# Altium integrated library NXP Microcontrollers ARM7.IntLib: 82 symbols (part 5 of 11)
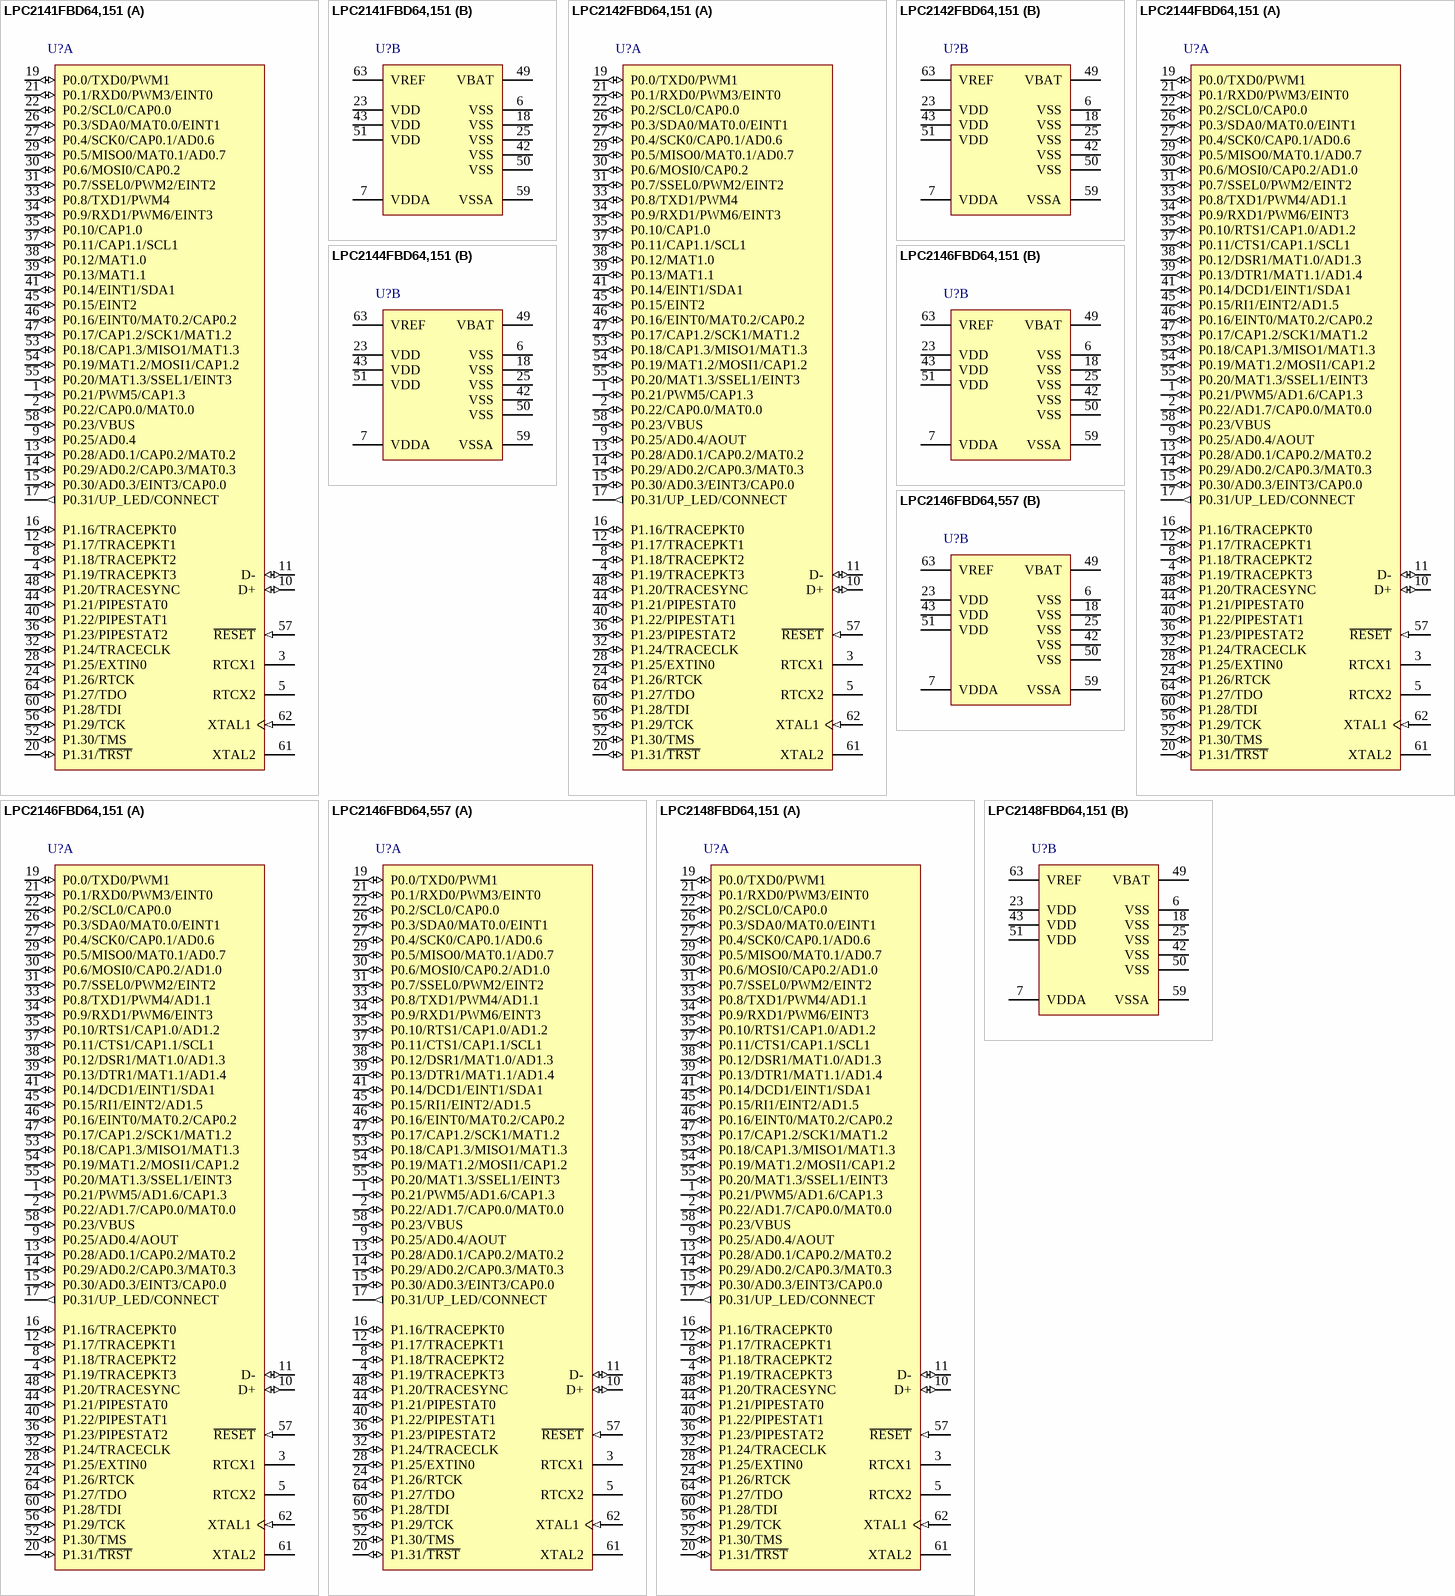
[diagram p39: symbols LPC2141FBD64,151 to LPC2148FBD64,151]

## LPC2146FBD64,557
designator U?
16/32-bit ARM7 Microcontroller, 45 I/O, 256 kB Flash, 40 kB SRAM, -40 to 85 degC, 64-Pin LQFP, Tray; Manufacturer: NXP Semiconductors; PartNumber: LPC2146FBD64,557; # of timers: 2; ADC (bits): 10; ADC Channels: 14; Flash (KB): 256; fmax [max] (MHz): 60; I/O Pins: 45; PLL: TRUE; PWM: 6; RAM (KB): 40; SPI: 1; Timer (bits): 32; DatasheetVersion: Rev. 5; PackageVersion: Feb-03; PackageReference: SOT314-2; PackageDescription: 64-Pin Plastic Low Profile Quad Flat Package, Body 10 x 10 mm, Pitch 0.5 mm; Supplier 1: Digi-Key; Supplier Part Number 1: LPC2146FBD64,557-ND; Supplier 2: Mouser; Supplier Part Number 2: 771-LPC2146FBD64557; Core: ARM7; I2C: 2; Packing: Tray; SSP: 1; UART: 2; USB: 1; Mounting Technology: Surface Mount; Code_JEDEC: MS-026; ComponentLink1Description: Manufacturer URL; ComponentLink1URL: http://www.nxp.com/; ComponentLink2Description: Datasheet; ComponentLink2URL: http://www.nxp.com/documents/data_sheet/LPC2141_42_44_46_48.pdf; ComponentLink3Description: Package Specification; ComponentLink3URL: http://www.nxp.com/documents/outline_drawing/sot314-2_po.pdf
footprint NXP-SOT314-2_V (QFP, 64-Leads, Body 10x10mm, Pitch 0.5mm)
part A pins: 1 P0.21/PWM5/AD1.6/CAP1.3 (io), 2 P0.22/AD1.7/CAP0.0/MAT0.0 (io), 3 RTCX1 "Input to the RTC oscillator circuit.", 4 P1.19/TRACEPKT3 (io), 5 RTCX2 "Output from the RTC oscillator circuit.", 8 P1.18/TRACEPKT2 (io), 9 P0.25/AD0.4/AOUT (io), 10 D+ (io) "USB bidirectional D+ line.", 11 D- (io) "USB bidirectional D- line.", 12 P1.17/TRACEPKT1 (io), 13 P0.28/AD0.1/CAP0.2/MAT0.2 (io), 14 P0.29/AD0.2/CAP0.3/MAT0.3 (io), 15 P0.30/AD0.3/EINT3/CAP0.0 (io), 16 P1.16/TRACEPKT0 (io), 17 P0.31/UP_LED/CONNECT (out), 19 P0.0/TXD0/PWM1 (io), 20 P1.31/~{TRST} (io), 21 P0.1/RXD0/PWM3/EINT0 (io), 22 P0.2/SCL0/CAP0.0 (io), 24 P1.26/RTCK (io), 26 P0.3/SDA0/MAT0.0/EINT1 (io), 27 P0.4/SCK0/CAP0.1/AD0.6 (io), 28 P1.25/EXTIN0 (io), 29 P0.5/MISO0/MAT0.1/AD0.7 (io), 30 P0.6/MOSI0/CAP0.2/AD1.0 (io), 31 P0.7/SSEL0/PWM2/EINT2 (io), 32 P1.24/TRACECLK (io), 33 P0.8/TXD1/PWM4/AD1.1 (io), 34 P0.9/RXD1/PWM6/EINT3 (io), 35 P0.10/RTS1/CAP1.0/AD1.2 (io), 36 P1.23/PIPESTAT2 (io), 37 P0.11/CTS1/CAP1.1/SCL1 (io), 38 P0.12/DSR1/MAT1.0/AD1.3 (io), 39 P0.13/DTR1/MAT1.1/AD1.4 (io), 40 P1.22/PIPESTAT1 (io), 41 P0.14/DCD1/EINT1/SDA1 (io), 44 P1.21/PIPESTAT0 (io), 45 P0.15/RI1/EINT2/AD1.5 (io), 46 P0.16/EINT0/MAT0.2/CAP0.2 (io), 47 P0.17/CAP1.2/SCK1/MAT1.2 (io), 48 P1.20/TRACESYNC (io), 52 P1.30/TMS (io), 53 P0.18/CAP1.3/MISO1/MAT1.3 (io), 54 P0.19/MAT1.2/MOSI1/CAP1.2 (io), 55 P0.20/MAT1.3/SSEL1/EINT3 (io), 56 P1.29/TCK (io), 57 ~{RESET} (in) "External reset input: A LOW on this pin resets the device, causing I/O ports and peripherals to take on their default states, and processor execution to begin at address 0. TTL with hysteresis, 5 V tolerant.", 58 P0.23/VBUS (io), 60 P1.28/TDI (io), 61 XTAL2 "Output from the oscillator amplifier.", 62 XTAL1 (in) "Input to the oscillator circuit and internal clock generator circuits.", 64 P1.27/TDO (io)
part B pins: 6 VSS (power) "Ground: 0 V reference.", 7 VDDA (power) "Analog 3.3 V power supply: This should be nominally the same voltage as VDD but should be isolated to minimize noise and error.This voltage is only used to power the on-chip ADC(s) and DAC.", 18 VSS (power) "Ground: 0 V reference.", 23 VDD (power) "3.3 V power supply: This is the power supply voltage for the core and I/O ports.", 25 VSS (power) "Ground: 0 V reference.", 42 VSS (power) "Ground: 0 V reference.", 43 VDD (power) "3.3 V power supply: This is the power supply voltage for the core and I/O ports.", 49 VBAT (power) "RTC power supply voltage: 3.3 V on this pin supplies the power to the RTC.", 50 VSS (power) "Ground: 0 V reference.", 51 VDD (power) "3.3 V power supply: This is the power supply voltage for the core and I/O ports.", 59 VSSA (power) "Analog ground: 0 V reference. This should nominally be the same voltage as VSS, but should be isolated to minimize noise and error.", 63 VREF "ADC reference voltage: This should be nominally less than or equal to the VDD voltage but should be isolated to minimize noise and error.Level on this pin is used as a reference for ADC(s) and DAC."

## LPC2148FBD64,151
designator U?
16/32-bit ARM7 Microcontroller, 45 I/O, 512 kB Flash, 40 kB SRAM, -40 to 85 degC, 64-Pin LQFP, Tray; Manufacturer: NXP Semiconductors; PartNumber: LPC2148FBD64,151; # of timers: 2; ADC (bits): 10; ADC Channels: 14; Flash (KB): 512; fmax [max] (MHz): 60; I/O Pins: 45; PLL: TRUE; PWM: 6; RAM (KB): 40; SPI: 1; Timer (bits): 32; DatasheetVersion: Rev. 5; PackageVersion: Feb-03; PackageReference: SOT314-2; PackageDescription: 64-Pin Plastic Low Profile Quad Flat Package, Body 10 x 10 mm, Pitch 0.5 mm; Supplier 1: Digi-Key; Supplier Part Number 1: 568-1765-ND; Supplier 2: Newark; Supplier Part Number 2: 70R5631; Supplier 3: Mouser; Supplier Part Number 3: 771-LPC2148FBD64-S; Core: ARM7; I2C: 2; Packing: Tray; SSP: 1; UART: 2; USB: 1; Mounting Technology: Surface Mount; Code_JEDEC: MS-026; ComponentLink1Description: Manufacturer URL; ComponentLink1URL: http://www.nxp.com/; ComponentLink2Description: Datasheet; ComponentLink2URL: http://www.nxp.com/documents/data_sheet/LPC2141_42_44_46_48.pdf; ComponentLink3Description: Package Specification; ComponentLink3URL: http://www.nxp.com/documents/outline_drawing/sot314-2_po.pdf
footprint NXP-SOT314-2_V (QFP, 64-Leads, Body 10x10mm, Pitch 0.5mm)
part A pins: 1 P0.21/PWM5/AD1.6/CAP1.3 (io), 2 P0.22/AD1.7/CAP0.0/MAT0.0 (io), 3 RTCX1 "Input to the RTC oscillator circuit.", 4 P1.19/TRACEPKT3 (io), 5 RTCX2 "Output from the RTC oscillator circuit.", 8 P1.18/TRACEPKT2 (io), 9 P0.25/AD0.4/AOUT (io), 10 D+ (io) "USB bidirectional D+ line.", 11 D- (io) "USB bidirectional D- line.", 12 P1.17/TRACEPKT1 (io), 13 P0.28/AD0.1/CAP0.2/MAT0.2 (io), 14 P0.29/AD0.2/CAP0.3/MAT0.3 (io), 15 P0.30/AD0.3/EINT3/CAP0.0 (io), 16 P1.16/TRACEPKT0 (io), 17 P0.31/UP_LED/CONNECT (out), 19 P0.0/TXD0/PWM1 (io), 20 P1.31/~{TRST} (io), 21 P0.1/RXD0/PWM3/EINT0 (io), 22 P0.2/SCL0/CAP0.0 (io), 24 P1.26/RTCK (io), 26 P0.3/SDA0/MAT0.0/EINT1 (io), 27 P0.4/SCK0/CAP0.1/AD0.6 (io), 28 P1.25/EXTIN0 (io), 29 P0.5/MISO0/MAT0.1/AD0.7 (io), 30 P0.6/MOSI0/CAP0.2/AD1.0 (io), 31 P0.7/SSEL0/PWM2/EINT2 (io), 32 P1.24/TRACECLK (io), 33 P0.8/TXD1/PWM4/AD1.1 (io), 34 P0.9/RXD1/PWM6/EINT3 (io), 35 P0.10/RTS1/CAP1.0/AD1.2 (io), 36 P1.23/PIPESTAT2 (io), 37 P0.11/CTS1/CAP1.1/SCL1 (io), 38 P0.12/DSR1/MAT1.0/AD1.3 (io), 39 P0.13/DTR1/MAT1.1/AD1.4 (io), 40 P1.22/PIPESTAT1 (io), 41 P0.14/DCD1/EINT1/SDA1 (io), 44 P1.21/PIPESTAT0 (io), 45 P0.15/RI1/EINT2/AD1.5 (io), 46 P0.16/EINT0/MAT0.2/CAP0.2 (io), 47 P0.17/CAP1.2/SCK1/MAT1.2 (io), 48 P1.20/TRACESYNC (io), 52 P1.30/TMS (io), 53 P0.18/CAP1.3/MISO1/MAT1.3 (io), 54 P0.19/MAT1.2/MOSI1/CAP1.2 (io), 55 P0.20/MAT1.3/SSEL1/EINT3 (io), 56 P1.29/TCK (io), 57 ~{RESET} (in) "External reset input: A LOW on this pin resets the device, causing I/O ports and peripherals to take on their default states, and processor execution to begin at address 0. TTL with hysteresis, 5 V tolerant.", 58 P0.23/VBUS (io), 60 P1.28/TDI (io), 61 XTAL2 "Output from the oscillator amplifier.", 62 XTAL1 (in) "Input to the oscillator circuit and internal clock generator circuits.", 64 P1.27/TDO (io)
part B pins: 6 VSS (power) "Ground: 0 V reference.", 7 VDDA (power) "Analog 3.3 V power supply: This should be nominally the same voltage as VDD but should be isolated to minimize noise and error.This voltage is only used to power the on-chip ADC(s) and DAC.", 18 VSS (power) "Ground: 0 V reference.", 23 VDD (power) "3.3 V power supply: This is the power supply voltage for the core and I/O ports.", 25 VSS (power) "Ground: 0 V reference.", 42 VSS (power) "Ground: 0 V reference.", 43 VDD (power) "3.3 V power supply: This is the power supply voltage for the core and I/O ports.", 49 VBAT (power) "RTC power supply voltage: 3.3 V on this pin supplies the power to the RTC.", 50 VSS (power) "Ground: 0 V reference.", 51 VDD (power) "3.3 V power supply: This is the power supply voltage for the core and I/O ports.", 59 VSSA (power) "Analog ground: 0 V reference. This should nominally be the same voltage as VSS, but should be isolated to minimize noise and error.", 63 VREF "ADC reference voltage: This should be nominally less than or equal to the VDD voltage but should be isolated to minimize noise and error.Level on this pin is used as a reference for ADC(s) and DAC."

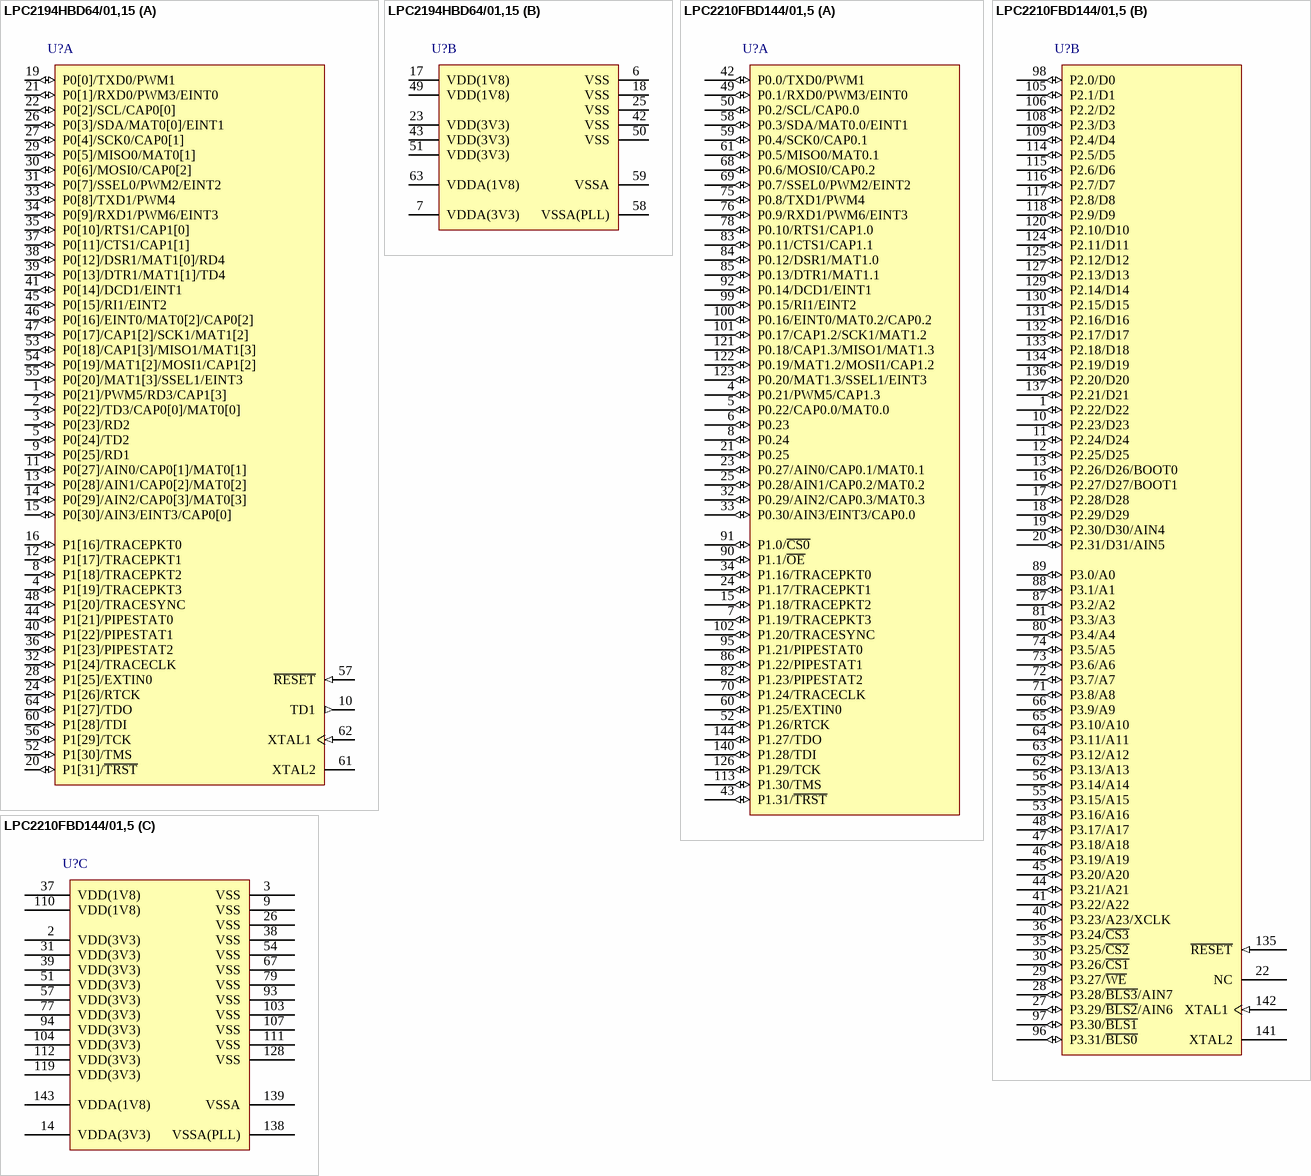
[diagram p12: symbols LPC2194HBD64/01,15 to LPC2210FBD144/01,5]

## LPC2194HBD64/01,15
designator U?
16/32-bit ARM7 Microcontroller, 46 I/O, 256 kB Flash, 16 kB SRAM, -40 to 125 degC, 64-Pin LQFP, Tray; Manufacturer: NXP Semiconductors; PartNumber: LPC2194HBD64/01,15; # of timers: 2; ADC (bits): 10; ADC Channels: 4; Flash (KB): 256; fmax [max] (MHz): 60; I/O Pins: 46; I2C: 1; PLL: TRUE; PWM: 6; RAM (KB): 16; Timer (bits): 32; DatasheetVersion: Rev. 6; PackageVersion: Feb-03; PackageReference: SOT314-2; PackageDescription: 64-Pin Plastic Low Profile Quad Flat Package, Body 10 x 10 mm, Pitch 0.5 mm; Supplier 1: Digi-Key; Supplier Part Number 1: 568-4316-ND; Supplier 2: Farnell; Supplier Part Number 2: 2072215; Supplier 3: Newark; Supplier Part Number 3: 70R5634; Supplier 4: Mouser; Supplier Part Number 4: 771-LPC2194HBD64/01S; CAN: 4; Core: ARM7; Packing: Tray; SPI: 2; SSP: 1; UART: 2; Mounting Technology: Surface Mount; Code_JEDEC: MS-026; ComponentLink1Description: Manufacturer URL; ComponentLink1URL: http://www.nxp.com/; ComponentLink2Description: Datasheet; ComponentLink2URL: http://www.nxp.com/documents/data_sheet/LPC2194.pdf; ComponentLink3Description: Package Specification; ComponentLink3URL: http://www.nxp.com/documents/outline_drawing/sot314-2_po.pdf
footprint NXP-SOT314-2_V (QFP, 64-Leads, Body 10x10mm, Pitch 0.5mm)
part A pins: 1 P0[21]/PWM5/RD3/CAP1[3] (io), 2 P0[22]/TD3/CAP0[0]/MAT0[0] (io), 3 P0[23]/RD2 (io), 4 P1[19]/TRACEPKT3 (io), 5 P0[24]/TD2 (io), 8 P1[18]/TRACEPKT2 (io), 9 P0[25]/RD1 (io), 10 TD1 (out) "CAN1 transmitter output.", 11 P0[27]/AIN0/CAP0[1]/MAT0[1] (io), 12 P1[17]/TRACEPKT1 (io), 13 P0[28]/AIN1/CAP0[2]/MAT0[2] (io), 14 P0[29]/AIN2/CAP0[3]/MAT0[3] (io), 15 P0[30]/AIN3/EINT3/CAP0[0] (io), 16 P1[16]/TRACEPKT0 (io), 19 P0[0]/TXD0/PWM1 (io), 20 P1[31]/~{TRST} (io), 21 P0[1]/RXD0/PWM3/EINT0 (io), 22 P0[2]/SCL/CAP0[0] (io), 24 P1[26]/RTCK (io), 26 P0[3]/SDA/MAT0[0]/EINT1 (io), 27 P0[4]/SCK0/CAP0[1] (io), 28 P1[25]/EXTIN0 (io), 29 P0[5]/MISO0/MAT0[1] (io), 30 P0[6]/MOSI0/CAP0[2] (io), 31 P0[7]/SSEL0/PWM2/EINT2 (io), 32 P1[24]/TRACECLK (io), 33 P0[8]/TXD1/PWM4 (io), 34 P0[9]/RXD1/PWM6/EINT3 (io), 35 P0[10]/RTS1/CAP1[0] (io), 36 P1[23]/PIPESTAT2 (io), 37 P0[11]/CTS1/CAP1[1] (io), 38 P0[12]/DSR1/MAT1[0]/RD4 (io), 39 P0[13]/DTR1/MAT1[1]/TD4 (io), 40 P1[22]/PIPESTAT1 (io), 41 P0[14]/DCD1/EINT1 (io), 44 P1[21]/PIPESTAT0 (io), 45 P0[15]/RI1/EINT2 (io), 46 P0[16]/EINT0/MAT0[2]/CAP0[2] (io), 47 P0[17]/CAP1[2]/SCK1/MAT1[2] (io), 48 P1[20]/TRACESYNC (io), 52 P1[30]/TMS (io), 53 P0[18]/CAP1[3]/MISO1/MAT1[3] (io), 54 P0[19]/MAT1[2]/MOSI1/CAP1[2] (io), 55 P0[20]/MAT1[3]/SSEL1/EINT3 (io), 56 P1[29]/TCK (io), 57 ~{RESET} (in) "external reset input; a LOW on this pin resets the device, causing I/O ports and peripherals to take on their default states, and processor execution to begin at address 0. TTL with hysteresis, 5 V tolerant.", 60 P1[28]/TDI (io), 61 XTAL2 "output from the oscillator amplifier.", 62 XTAL1 (in) "input to the oscillator circuit and internal clock generator circuits.", 64 P1[27]/TDO (io)
part B pins: 6 VSS (power) "ground: 0 V reference.", 7 VDDA(3V3) (power) "analog 3.3 V pad power supply; this should be nominally the same voltage as VDD(3V3) but should be isolated to minimize noise and error.", 17 VDD(1V8) (power) "1.8 V core power supply; this is the power supply voltage for internal circuitry.", 18 VSS (power) "ground: 0 V reference.", 23 VDD(3V3) (power) "3.3 V pad power supply; this is the power supply voltage for the I/O ports.", 25 VSS (power) "ground: 0 V reference.", 42 VSS (power) "ground: 0 V reference.", 43 VDD(3V3) (power) "3.3 V pad power supply; this is the power supply voltage for the I/O ports.", 49 VDD(1V8) (power) "1.8 V core power supply; this is the power supply voltage for internal circuitry.", 50 VSS (power) "ground: 0 V reference.", 51 VDD(3V3) (power) "3.3 V pad power supply; this is the power supply voltage for the I/O ports.", 58 VSSA(PLL) (power) "PLL analog ground; 0 V reference. This should nominally be the same voltage as VSS, but should be isolated to minimize noise and error.", 59 VSSA (power) "analog ground; 0 V reference. This should nominally be the same voltage as VSS, but should be isolated to minimize noise and error.", 63 VDDA(1V8) (power) "analog 1.8 V core power supply; this is the power supply voltage for internal circuitry. This should be nominally the same voltage as VDD(1V8) but should be isolated to minimize noise and error."

## LPC2210FBD144/01,5
designator U?
16/32-bit ARM7 Microcontroller, 76 I/O, 16 kB SRAM, -40 to 85 degC, 144-Pin LQFP, Tray; Manufacturer: NXP Semiconductors; PartNumber: LPC2210FBD144/01,5; # of timers: 2; ADC (bits): 10; ADC Channels: 8; fmax [max] (MHz): 60; I/O Pins: 76; I2C: 1; PLL: TRUE; PWM: 6; RAM (KB): 16; SSP: 3; Timer (bits): 32; DatasheetVersion: Rev. 06; PackageVersion: Feb-03; PackageReference: SOT486-1; PackageDescription: 144-Pin Plastic Low Profile Quad Flat Package, Body 20 x 20 mm, Pitch 0.5 mm; Supplier 1: Digi-Key; Supplier Part Number 1: 568-4012-ND; Supplier 2: Newark; Supplier Part Number 2: 70R5635; Supplier 3: Mouser; Supplier Part Number 3: 771-LPC2210FBD14401S; Core: ARM7; Packing: Tray; SPI: 2; UART: 2; Mounting Technology: Surface Mount; Code_JEDEC: MS-026; ComponentLink1Description: Manufacturer URL; ComponentLink1URL: http://www.nxp.com/; ComponentLink2Description: Datasheet; ComponentLink2URL: http://www.nxp.com/documents/data_sheet/LPC2210_2220.pdf; ComponentLink3Description: Package Specification; ComponentLink3URL: http://www.nxp.com/documents/outline_drawing/sot486-1_po.pdf
footprint NXP-SOT486-1_V (QFP, 144-Leads, Body 20x20mm, Pitch 0.5mm)
part A pins: 4 P0.21/PWM5/CAP1.3 (io), 5 P0.22/CAP0.0/MAT0.0 (io), 6 P0.23 (io) "General purpose bidirectional digital port only.", 7 P1.19/TRACEPKT3 (io), 8 P0.24 (io) "General purpose bidirectional digital port only.", 15 P1.18/TRACEPKT2 (io), 21 P0.25 (io) "General purpose bidirectional digital port only.", 23 P0.27/AIN0/CAP0.1/MAT0.1 (io), 24 P1.17/TRACEPKT1 (io), 25 P0.28/AIN1/CAP0.2/MAT0.2 (io), 32 P0.29/AIN2/CAP0.3/MAT0.3 (io), 33 P0.30/AIN3/EINT3/CAP0.0 (io), 34 P1.16/TRACEPKT0 (io), 42 P0.0/TXD0/PWM1 (io), 43 P1.31/~{TRST} (io), 49 P0.1/RXD0/PWM3/EINT0 (io), 50 P0.2/SCL/CAP0.0 (io), 52 P1.26/RTCK (io), 58 P0.3/SDA/MAT0.0/EINT1 (io), 59 P0.4/SCK0/CAP0.1 (io), 60 P1.25/EXTIN0 (io), 61 P0.5/MISO0/MAT0.1 (io), 68 P0.6/MOSI0/CAP0.2 (io), 69 P0.7/SSEL0/PWM2/EINT2 (io), 70 P1.24/TRACECLK (io), 75 P0.8/TXD1/PWM4 (io), 76 P0.9/RXD1/PWM6/EINT3 (io), 78 P0.10/RTS1/CAP1.0 (io), 82 P1.23/PIPESTAT2 (io), 83 P0.11/CTS1/CAP1.1 (io), 84 P0.12/DSR1/MAT1.0 (io), 85 P0.13/DTR1/MAT1.1 (io), 86 P1.22/PIPESTAT1 (io), 90 P1.1/~{OE} (io), 91 P1.0/~{CS0} (io), 92 P0.14/DCD1/EINT1 (io), 95 P1.21/PIPESTAT0 (io), 99 P0.15/RI1/EINT2 (io), 100 P0.16/EINT0/MAT0.2/CAP0.2 (io), 101 P0.17/CAP1.2/SCK1/MAT1.2 (io), 102 P1.20/TRACESYNC (io), 113 P1.30/TMS (io), 121 P0.18/CAP1.3/MISO1/MAT1.3 (io), 122 P0.19/MAT1.2/MOSI1/CAP1.2 (io), 123 P0.20/MAT1.3/SSEL1/EINT3 (io), 126 P1.29/TCK (io), 140 P1.28/TDI (io), 144 P1.27/TDO (io)
part B pins: 1 P2.22/D22 (io), 10 P2.23/D23 (io), 11 P2.24/D24 (io), 12 P2.25/D25 (io), 13 P2.26/D26/BOOT0 (io), 16 P2.27/D27/BOOT1 (io), 17 P2.28/D28 (io), 18 P2.29/D29 (io), 19 P2.30/D30/AIN4 (io), 20 P2.31/D31/AIN5 (io), 22 NC "Not connected. This pin MUST NOT be pulled LOW or the device might not operate properly.", 27 P3.29/~{BLS2}/AIN6 (io), 28 P3.28/~{BLS3}/AIN7 (io), 29 P3.27/~{WE} (io), 30 P3.26/~{CS1} (io), 35 P3.25/~{CS2} (io), 36 P3.24/~{CS3} (io), 40 P3.23/A23/XCLK (io), 41 P3.22/A22 (io), 44 P3.21/A21 (io), 45 P3.20/A20 (io), 46 P3.19/A19 (io), 47 P3.18/A18 (io), 48 P3.17/A17 (io), 53 P3.16/A16 (io), 55 P3.15/A15 (io), 56 P3.14/A14 (io), 62 P3.13/A13 (io), 63 P3.12/A12 (io), 64 P3.11/A11 (io), 65 P3.10/A10 (io), 66 P3.9/A9 (io), 71 P3.8/A8 (io), 72 P3.7/A7 (io), 73 P3.6/A6 (io), 74 P3.5/A5 (io), 80 P3.4/A4 (io), 81 P3.3/A3 (io), 87 P3.2/A2 (io), 88 P3.1/A1 (io), 89 P3.0/A0 (io), 96 P3.31/~{BLS0} (io), 97 P3.30/~{BLS1} (io), 98 P2.0/D0 (io), 105 P2.1/D1 (io), 106 P2.2/D2 (io), 108 P2.3/D3 (io), 109 P2.4/D4 (io), 114 P2.5/D5 (io), 115 P2.6/D6 (io), 116 P2.7/D7 (io), 117 P2.8/D8 (io), 118 P2.9/D9 (io), 120 P2.10/D10 (io), 124 P2.11/D11 (io), 125 P2.12/D12 (io), 127 P2.13/D13 (io), 129 P2.14/D14 (io), 130 P2.15/D15 (io), 131 P2.16/D16 (io), 132 P2.17/D17 (io), 133 P2.18/D18 (io), 134 P2.19/D19 (io), 135 ~{RESET} (in) "External reset input: A LOW on this pin resets the device,causing I/O ports and peripherals to take on their default states, and processor execution to begin at address 0. TTL with hysteresis, 5 V tolerant.", 136 P2.20/D20 (io), 137 P2.21/D21 (io), 141 XTAL2 "Output from the oscillator amplifier.", 142 XTAL1 (in) "Input to the oscillator circuit and internal clock generator circuits."
part C pins: 2 VDD(3V3) (power) "3.3 V pad power supply: This is the power supply voltage for the I/O ports.", 3 VSS (power) "Ground: 0 V reference.", 9 VSS (power) "Ground: 0 V reference.", 14 VDDA(3V3) (power) "Analog 3.3 V pad power supply: This should be nominally the same voltage as VDD(3V3) but should be isolated to minimize noise and error.", 26 VSS (power) "Ground: 0 V reference.", 31 VDD(3V3) (power) "3.3 V pad power supply: This is the power supply voltage for the I/O ports.", 37 VDD(1V8) (power) "1.8 V core power supply: This is the power supply voltage for internal circuitry.", 38 VSS (power) "Ground: 0 V reference.", 39 VDD(3V3) (power) "3.3 V pad power supply: This is the power supply voltage for the I/O ports.", 51 VDD(3V3) (power) "3.3 V pad power supply: This is the power supply voltage for the I/O ports.", 54 VSS (power) "Ground: 0 V reference.", 57 VDD(3V3) (power) "3.3 V pad power supply: This is the power supply voltage for the I/O ports.", 67 VSS (power) "Ground: 0 V reference.", 77 VDD(3V3) (power) "3.3 V pad power supply: This is the power supply voltage for the I/O ports.", 79 VSS (power) "Ground: 0 V reference.", 93 VSS (power) "Ground: 0 V reference.", 94 VDD(3V3) (power) "3.3 V pad power supply: This is the power supply voltage for the I/O ports.", 103 VSS (power) "Ground: 0 V reference.", 104 VDD(3V3) (power) "3.3 V pad power supply: This is the power supply voltage for the I/O ports.", 107 VSS (power) "Ground: 0 V reference.", 110 VDD(1V8) (power) "1.8 V core power supply: This is the power supply voltage for internal circuitry.", 111 VSS (power) "Ground: 0 V reference.", 112 VDD(3V3) (power) "3.3 V pad power supply: This is the power supply voltage for the I/O ports.", 119 VDD(3V3) (power) "3.3 V pad power supply: This is the power supply voltage for the I/O ports.", 128 VSS (power) "Ground: 0 V reference.", 138 VSSA(PLL) (power) "PLL analog ground: 0 V reference. This should nominally be the same voltage as VSS, but should be isolated to minimize noise and error.", 139 VSSA (power) "Analog ground: 0 V reference. This should nominally be the same voltage as VSS, but should be isolated to minimize noise and error.", 143 VDDA(1V8) (power) "Analog 1.8 V core power supply: This is the power supply voltage for internal circuitry. This should be nominally the same voltage as VDD(1V8) but should be isolated to minimize noise and error."

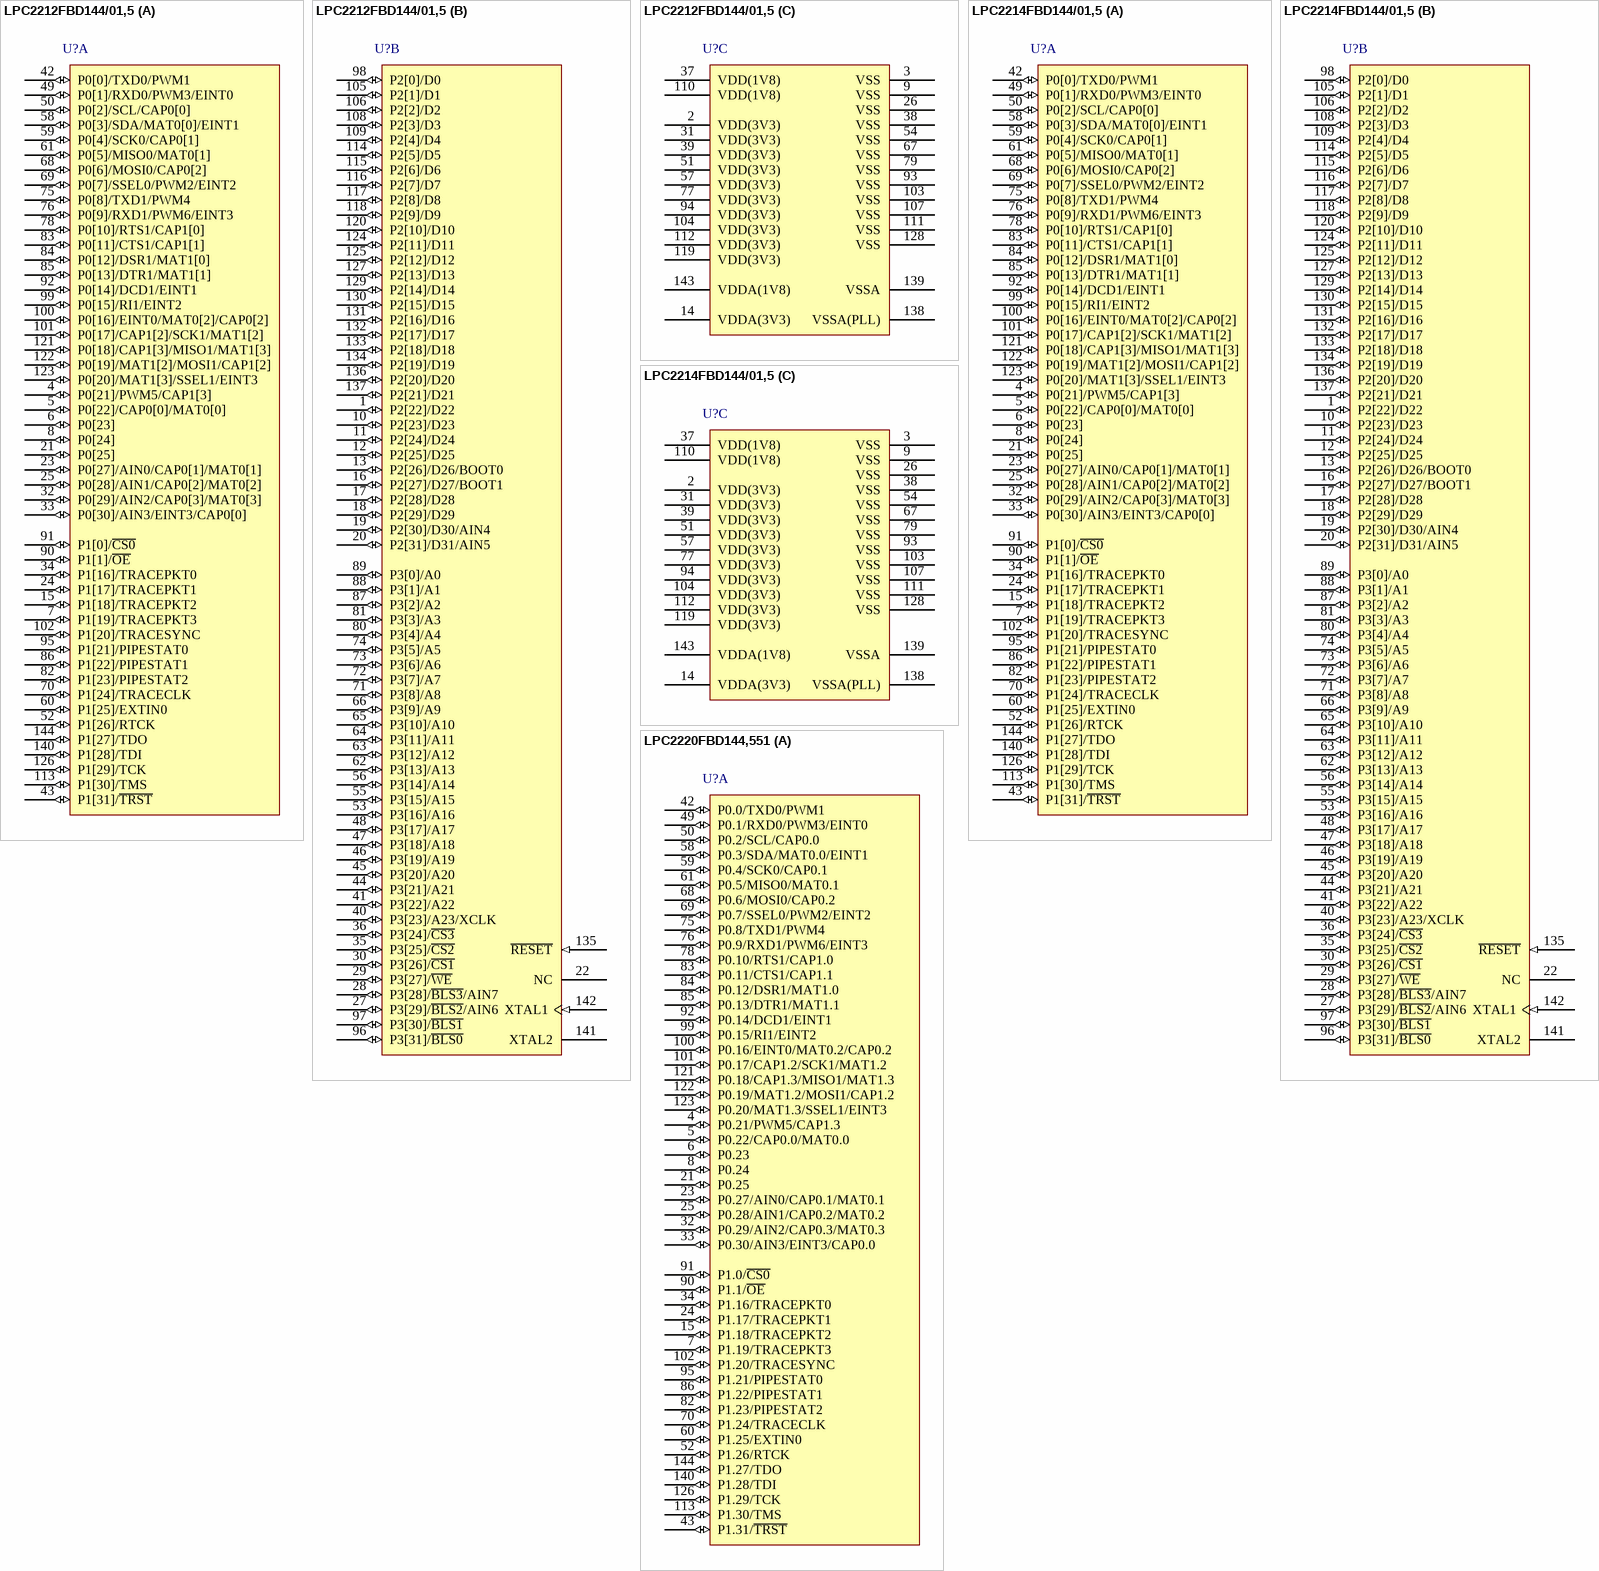
[diagram p13: symbols LPC2212FBD144/01,5 to LPC2220FBD144,551]

## LPC2212FBD144/01,5
designator U?
16/32-bit ARM7 Microcontroller, 112 I/O, 128 kB Flash, 16 kB SRAM, -40 to 85 degC, 144-Pin LQFP, Tray; Manufacturer: NXP Semiconductors; PartNumber: LPC2212FBD144/01,5; # of timers: 3; ADC (bits): 10; ADC Channels: 8; Flash (KB): 128; fmax [max] (MHz): 60; I/O Pins: 112; I2C: 1; PLL: TRUE; PWM: 6; RAM (KB): 16; SPI: 2; Timer (bits): 32; DatasheetVersion: Rev. 5; PackageVersion: Feb-03; PackageReference: SOT486-1; PackageDescription: 144-Pin Plastic Low Profile Quad Flat Package, Body 20 x 20 mm, Pitch 0.5 mm; Supplier 1: Digi-Key; Supplier Part Number 1: 568-4317-ND; Supplier 2: Newark; Supplier Part Number 2: 70R5636; Supplier 3: Mouser; Supplier Part Number 3: 771-LPC2212FBD14401S; Core: ARM7; Packing: Tray; UART: 2; Mounting Technology: Surface Mount; Code_JEDEC: MS-026; ComponentLink1Description: Manufacturer URL; ComponentLink1URL: http://www.nxp.com/; ComponentLink2Description: Datasheet; ComponentLink2URL: http://www.nxp.com/documents/data_sheet/LPC2212_2214.pdf; ComponentLink3Description: Package Specification; ComponentLink3URL: http://www.nxp.com/documents/outline_drawing/sot486-1_po.pdf
footprint NXP-SOT486-1_V (QFP, 144-Leads, Body 20x20mm, Pitch 0.5mm)
part A pins: 4 P0[21]/PWM5/CAP1[3] (io), 5 P0[22]/CAP0[0]/MAT0[0] (io), 6 P0[23] (io) "General purpose bidirectional digital port only.", 7 P1[19]/TRACEPKT3 (io), 8 P0[24] (io) "General purpose bidirectional digital port only.", 15 P1[18]/TRACEPKT2 (io), 21 P0[25] (io) "General purpose bidirectional digital port only.", 23 P0[27]/AIN0/CAP0[1]/MAT0[1] (io), 24 P1[17]/TRACEPKT1 (io), 25 P0[28]/AIN1/CAP0[2]/MAT0[2] (io), 32 P0[29]/AIN2/CAP0[3]/MAT0[3] (io), 33 P0[30]/AIN3/EINT3/CAP0[0] (io), 34 P1[16]/TRACEPKT0 (io), 42 P0[0]/TXD0/PWM1 (io), 43 P1[31]/~{TRST} (io), 49 P0[1]/RXD0/PWM3/EINT0 (io), 50 P0[2]/SCL/CAP0[0] (io), 52 P1[26]/RTCK (io), 58 P0[3]/SDA/MAT0[0]/EINT1 (io), 59 P0[4]/SCK0/CAP0[1] (io), 60 P1[25]/EXTIN0 (io), 61 P0[5]/MISO0/MAT0[1] (io), 68 P0[6]/MOSI0/CAP0[2] (io), 69 P0[7]/SSEL0/PWM2/EINT2 (io), 70 P1[24]/TRACECLK (io), 75 P0[8]/TXD1/PWM4 (io), 76 P0[9]/RXD1/PWM6/EINT3 (io), 78 P0[10]/RTS1/CAP1[0] (io), 82 P1[23]/PIPESTAT2 (io), 83 P0[11]/CTS1/CAP1[1] (io), 84 P0[12]/DSR1/MAT1[0] (io), 85 P0[13]/DTR1/MAT1[1] (io), 86 P1[22]/PIPESTAT1 (io), 90 P1[1]/~{OE} (io), 91 P1[0]/~{CS0} (io), 92 P0[14]/DCD1/EINT1 (io), 95 P1[21]/PIPESTAT0 (io), 99 P0[15]/RI1/EINT2 (io), 100 P0[16]/EINT0/MAT0[2]/CAP0[2] (io), 101 P0[17]/CAP1[2]/SCK1/MAT1[2] (io), 102 P1[20]/TRACESYNC (io), 113 P1[30]/TMS (io), 121 P0[18]/CAP1[3]/MISO1/MAT1[3] (io), 122 P0[19]/MAT1[2]/MOSI1/CAP1[2] (io), 123 P0[20]/MAT1[3]/SSEL1/EINT3 (io), 126 P1[29]/TCK (io), 140 P1[28]/TDI (io), 144 P1[27]/TDO (io)
part B pins: 1 P2[22]/D22 (io), 10 P2[23]/D23 (io), 11 P2[24]/D24 (io), 12 P2[25]/D25 (io), 13 P2[26]/D26/BOOT0 (io), 16 P2[27]/D27/BOOT1 (io), 17 P2[28]/D28 (io), 18 P2[29]/D29 (io), 19 P2[30]/D30/AIN4 (io), 20 P2[31]/D31/AIN5 (io), 22 NC "Pin not connected.", 27 P3[29]/~{BLS2}/AIN6 (io), 28 P3[28]/~{BLS3}/AIN7 (io), 29 P3[27]/~{WE} (io), 30 P3[26]/~{CS1} (io), 35 P3[25]/~{CS2} (io), 36 P3[24]/~{CS3} (io), 40 P3[23]/A23/XCLK (io), 41 P3[22]/A22 (io), 44 P3[21]/A21 (io), 45 P3[20]/A20 (io), 46 P3[19]/A19 (io), 47 P3[18]/A18 (io), 48 P3[17]/A17 (io), 53 P3[16]/A16 (io), 55 P3[15]/A15 (io), 56 P3[14]/A14 (io), 62 P3[13]/A13 (io), 63 P3[12]/A12 (io), 64 P3[11]/A11 (io), 65 P3[10]/A10 (io), 66 P3[9]/A9 (io), 71 P3[8]/A8 (io), 72 P3[7]/A7 (io), 73 P3[6]/A6 (io), 74 P3[5]/A5 (io), 80 P3[4]/A4 (io), 81 P3[3]/A3 (io), 87 P3[2]/A2 (io), 88 P3[1]/A1 (io), 89 P3[0]/A0 (io), 96 P3[31]/~{BLS0} (io), 97 P3[30]/~{BLS1} (io), 98 P2[0]/D0 (io), 105 P2[1]/D1 (io), 106 P2[2]/D2 (io), 108 P2[3]/D3 (io), 109 P2[4]/D4 (io), 114 P2[5]/D5 (io), 115 P2[6]/D6 (io), 116 P2[7]/D7 (io), 117 P2[8]/D8 (io), 118 P2[9]/D9 (io), 120 P2[10]/D10 (io), 124 P2[11]/D11 (io), 125 P2[12]/D12 (io), 127 P2[13]/D13 (io), 129 P2[14]/D14 (io), 130 P2[15]/D15 (io), 131 P2[16]/D16 (io), 132 P2[17]/D17 (io), 133 P2[18]/D18 (io), 134 P2[19]/D19 (io), 135 ~{RESET} (in) "External Reset input: A LOW on this pin resets the device, causing I/O ports and peripherals to take on their default states, and processor execution to begin at address 0. TTL with hysteresis, 5 V tolerant.", 136 P2[20]/D20 (io), 137 P2[21]/D21 (io), 141 XTAL2 "Output from the oscillator amplifier.", 142 XTAL1 (in) "Input to the oscillator circuit and internal clock generator circuits."
part C pins: 2 VDD(3V3) (power) "3.3 V pad power supply: This is the power supply voltage for the I/O ports.", 3 VSS (power) "Ground: 0 V reference.", 9 VSS (power) "Ground: 0 V reference.", 14 VDDA(3V3) (power) "Analog 3.3 V pad power supply: This should be nominally the same voltage as VDD(3V3) but should be isolated to minimize noise and error.", 26 VSS (power) "Ground: 0 V reference.", 31 VDD(3V3) (power) "3.3 V pad power supply: This is the power supply voltage for the I/O ports.", 37 VDD(1V8) (power) "1.8 V core power supply: This is the power supply voltage for internal circuitry.", 38 VSS (power) "Ground: 0 V reference.", 39 VDD(3V3) (power) "3.3 V pad power supply: This is the power supply voltage for the I/O ports.", 51 VDD(3V3) (power) "3.3 V pad power supply: This is the power supply voltage for the I/O ports.", 54 VSS (power) "Ground: 0 V reference.", 57 VDD(3V3) (power) "3.3 V pad power supply: This is the power supply voltage for the I/O ports.", 67 VSS (power) "Ground: 0 V reference.", 77 VDD(3V3) (power) "3.3 V pad power supply: This is the power supply voltage for the I/O ports.", 79 VSS (power) "Ground: 0 V reference.", 93 VSS (power) "Ground: 0 V reference.", 94 VDD(3V3) (power) "3.3 V pad power supply: This is the power supply voltage for the I/O ports.", 103 VSS (power) "Ground: 0 V reference.", 104 VDD(3V3) (power) "3.3 V pad power supply: This is the power supply voltage for the I/O ports.", 107 VSS (power) "Ground: 0 V reference.", 110 VDD(1V8) (power) "1.8 V core power supply: This is the power supply voltage for internal circuitry.", 111 VSS (power) "Ground: 0 V reference.", 112 VDD(3V3) (power) "3.3 V pad power supply: This is the power supply voltage for the I/O ports.", 119 VDD(3V3) (power) "3.3 V pad power supply: This is the power supply voltage for the I/O ports.", 128 VSS (power) "Ground: 0 V reference.", 138 VSSA(PLL) (power) "PLL analog ground: 0 V reference. This should nominally be the same voltage as VSS, but should be isolated to minimize noise and error.", 139 VSSA (power) "Analog ground: 0 V reference. This should nominally be the same voltage as VSS, but should be isolated to minimize noise and error.", 143 VDDA(1V8) (power) "Analog 1.8 V core power supply: This is the power supply voltage for internal circuitry. This should be nominally the same voltage as VDD(1V8) but should be isolated to minimize noise and error."

## LPC2214FBD144/01,5
designator U?
16/32-bit ARM7 Microcontroller, 112 I/O, 256 kB Flash, 16 kB SRAM, -40 to 85 degC, 144-Pin LQFP, Tray; Manufacturer: NXP Semiconductors; PartNumber: LPC2214FBD144/01,5; # of timers: 3; ADC (bits): 10; ADC Channels: 8; Flash (KB): 256; fmax [max] (MHz): 60; I/O Pins: 112; I2C: 1; PLL: TRUE; PWM: 6; RAM (KB): 16; SPI: 2; Timer (bits): 32; DatasheetVersion: Rev. 5; PackageVersion: Feb-03; PackageReference: SOT486-1; PackageDescription: 144-Pin Plastic Low Profile Quad Flat Package, Body 20 x 20 mm, Pitch 0.5 mm; Supplier 1: Digi-Key; Supplier Part Number 1: 568-4318-ND; Supplier 2: Newark; Supplier Part Number 2: 70R5637; Supplier 3: Mouser; Supplier Part Number 3: 771-LPC2214FBD14401S; Core: ARM7; Packing: Tray; UART: 2; Mounting Technology: Surface Mount; Code_JEDEC: MS-026; ComponentLink1Description: Manufacturer URL; ComponentLink1URL: http://www.nxp.com/; ComponentLink2Description: Datasheet; ComponentLink2URL: http://www.nxp.com/documents/data_sheet/LPC2212_2214.pdf; ComponentLink3Description: Package Specification; ComponentLink3URL: http://www.nxp.com/documents/outline_drawing/sot486-1_po.pdf
footprint NXP-SOT486-1_V (QFP, 144-Leads, Body 20x20mm, Pitch 0.5mm)
part A pins: 4 P0[21]/PWM5/CAP1[3] (io), 5 P0[22]/CAP0[0]/MAT0[0] (io), 6 P0[23] (io) "General purpose bidirectional digital port only.", 7 P1[19]/TRACEPKT3 (io), 8 P0[24] (io) "General purpose bidirectional digital port only.", 15 P1[18]/TRACEPKT2 (io), 21 P0[25] (io) "General purpose bidirectional digital port only.", 23 P0[27]/AIN0/CAP0[1]/MAT0[1] (io), 24 P1[17]/TRACEPKT1 (io), 25 P0[28]/AIN1/CAP0[2]/MAT0[2] (io), 32 P0[29]/AIN2/CAP0[3]/MAT0[3] (io), 33 P0[30]/AIN3/EINT3/CAP0[0] (io), 34 P1[16]/TRACEPKT0 (io), 42 P0[0]/TXD0/PWM1 (io), 43 P1[31]/~{TRST} (io), 49 P0[1]/RXD0/PWM3/EINT0 (io), 50 P0[2]/SCL/CAP0[0] (io), 52 P1[26]/RTCK (io), 58 P0[3]/SDA/MAT0[0]/EINT1 (io), 59 P0[4]/SCK0/CAP0[1] (io), 60 P1[25]/EXTIN0 (io), 61 P0[5]/MISO0/MAT0[1] (io), 68 P0[6]/MOSI0/CAP0[2] (io), 69 P0[7]/SSEL0/PWM2/EINT2 (io), 70 P1[24]/TRACECLK (io), 75 P0[8]/TXD1/PWM4 (io), 76 P0[9]/RXD1/PWM6/EINT3 (io), 78 P0[10]/RTS1/CAP1[0] (io), 82 P1[23]/PIPESTAT2 (io), 83 P0[11]/CTS1/CAP1[1] (io), 84 P0[12]/DSR1/MAT1[0] (io), 85 P0[13]/DTR1/MAT1[1] (io), 86 P1[22]/PIPESTAT1 (io), 90 P1[1]/~{OE} (io), 91 P1[0]/~{CS0} (io), 92 P0[14]/DCD1/EINT1 (io), 95 P1[21]/PIPESTAT0 (io), 99 P0[15]/RI1/EINT2 (io), 100 P0[16]/EINT0/MAT0[2]/CAP0[2] (io), 101 P0[17]/CAP1[2]/SCK1/MAT1[2] (io), 102 P1[20]/TRACESYNC (io), 113 P1[30]/TMS (io), 121 P0[18]/CAP1[3]/MISO1/MAT1[3] (io), 122 P0[19]/MAT1[2]/MOSI1/CAP1[2] (io), 123 P0[20]/MAT1[3]/SSEL1/EINT3 (io), 126 P1[29]/TCK (io), 140 P1[28]/TDI (io), 144 P1[27]/TDO (io)
part B pins: 1 P2[22]/D22 (io), 10 P2[23]/D23 (io), 11 P2[24]/D24 (io), 12 P2[25]/D25 (io), 13 P2[26]/D26/BOOT0 (io), 16 P2[27]/D27/BOOT1 (io), 17 P2[28]/D28 (io), 18 P2[29]/D29 (io), 19 P2[30]/D30/AIN4 (io), 20 P2[31]/D31/AIN5 (io), 22 NC "Pin not connected.", 27 P3[29]/~{BLS2}/AIN6 (io), 28 P3[28]/~{BLS3}/AIN7 (io), 29 P3[27]/~{WE} (io), 30 P3[26]/~{CS1} (io), 35 P3[25]/~{CS2} (io), 36 P3[24]/~{CS3} (io), 40 P3[23]/A23/XCLK (io), 41 P3[22]/A22 (io), 44 P3[21]/A21 (io), 45 P3[20]/A20 (io), 46 P3[19]/A19 (io), 47 P3[18]/A18 (io), 48 P3[17]/A17 (io), 53 P3[16]/A16 (io), 55 P3[15]/A15 (io), 56 P3[14]/A14 (io), 62 P3[13]/A13 (io), 63 P3[12]/A12 (io), 64 P3[11]/A11 (io), 65 P3[10]/A10 (io), 66 P3[9]/A9 (io), 71 P3[8]/A8 (io), 72 P3[7]/A7 (io), 73 P3[6]/A6 (io), 74 P3[5]/A5 (io), 80 P3[4]/A4 (io), 81 P3[3]/A3 (io), 87 P3[2]/A2 (io), 88 P3[1]/A1 (io), 89 P3[0]/A0 (io), 96 P3[31]/~{BLS0} (io), 97 P3[30]/~{BLS1} (io), 98 P2[0]/D0 (io), 105 P2[1]/D1 (io), 106 P2[2]/D2 (io), 108 P2[3]/D3 (io), 109 P2[4]/D4 (io), 114 P2[5]/D5 (io), 115 P2[6]/D6 (io), 116 P2[7]/D7 (io), 117 P2[8]/D8 (io), 118 P2[9]/D9 (io), 120 P2[10]/D10 (io), 124 P2[11]/D11 (io), 125 P2[12]/D12 (io), 127 P2[13]/D13 (io), 129 P2[14]/D14 (io), 130 P2[15]/D15 (io), 131 P2[16]/D16 (io), 132 P2[17]/D17 (io), 133 P2[18]/D18 (io), 134 P2[19]/D19 (io), 135 ~{RESET} (in) "External Reset input: A LOW on this pin resets the device, causing I/O ports and peripherals to take on their default states, and processor execution to begin at address 0. TTL with hysteresis, 5 V tolerant.", 136 P2[20]/D20 (io), 137 P2[21]/D21 (io), 141 XTAL2 "Output from the oscillator amplifier.", 142 XTAL1 (in) "Input to the oscillator circuit and internal clock generator circuits."
part C pins: 2 VDD(3V3) (power) "3.3 V pad power supply: This is the power supply voltage for the I/O ports.", 3 VSS (power) "Ground: 0 V reference.", 9 VSS (power) "Ground: 0 V reference.", 14 VDDA(3V3) (power) "Analog 3.3 V pad power supply: This should be nominally the same voltage as VDD(3V3) but should be isolated to minimize noise and error.", 26 VSS (power) "Ground: 0 V reference.", 31 VDD(3V3) (power) "3.3 V pad power supply: This is the power supply voltage for the I/O ports.", 37 VDD(1V8) (power) "1.8 V core power supply: This is the power supply voltage for internal circuitry.", 38 VSS (power) "Ground: 0 V reference.", 39 VDD(3V3) (power) "3.3 V pad power supply: This is the power supply voltage for the I/O ports.", 51 VDD(3V3) (power) "3.3 V pad power supply: This is the power supply voltage for the I/O ports.", 54 VSS (power) "Ground: 0 V reference.", 57 VDD(3V3) (power) "3.3 V pad power supply: This is the power supply voltage for the I/O ports.", 67 VSS (power) "Ground: 0 V reference.", 77 VDD(3V3) (power) "3.3 V pad power supply: This is the power supply voltage for the I/O ports.", 79 VSS (power) "Ground: 0 V reference.", 93 VSS (power) "Ground: 0 V reference.", 94 VDD(3V3) (power) "3.3 V pad power supply: This is the power supply voltage for the I/O ports.", 103 VSS (power) "Ground: 0 V reference.", 104 VDD(3V3) (power) "3.3 V pad power supply: This is the power supply voltage for the I/O ports.", 107 VSS (power) "Ground: 0 V reference.", 110 VDD(1V8) (power) "1.8 V core power supply: This is the power supply voltage for internal circuitry.", 111 VSS (power) "Ground: 0 V reference.", 112 VDD(3V3) (power) "3.3 V pad power supply: This is the power supply voltage for the I/O ports.", 119 VDD(3V3) (power) "3.3 V pad power supply: This is the power supply voltage for the I/O ports.", 128 VSS (power) "Ground: 0 V reference.", 138 VSSA(PLL) (power) "PLL analog ground: 0 V reference. This should nominally be the same voltage as VSS, but should be isolated to minimize noise and error.", 139 VSSA (power) "Analog ground: 0 V reference. This should nominally be the same voltage as VSS, but should be isolated to minimize noise and error.", 143 VDDA(1V8) (power) "Analog 1.8 V core power supply: This is the power supply voltage for internal circuitry. This should be nominally the same voltage as VDD(1V8) but should be isolated to minimize noise and error."

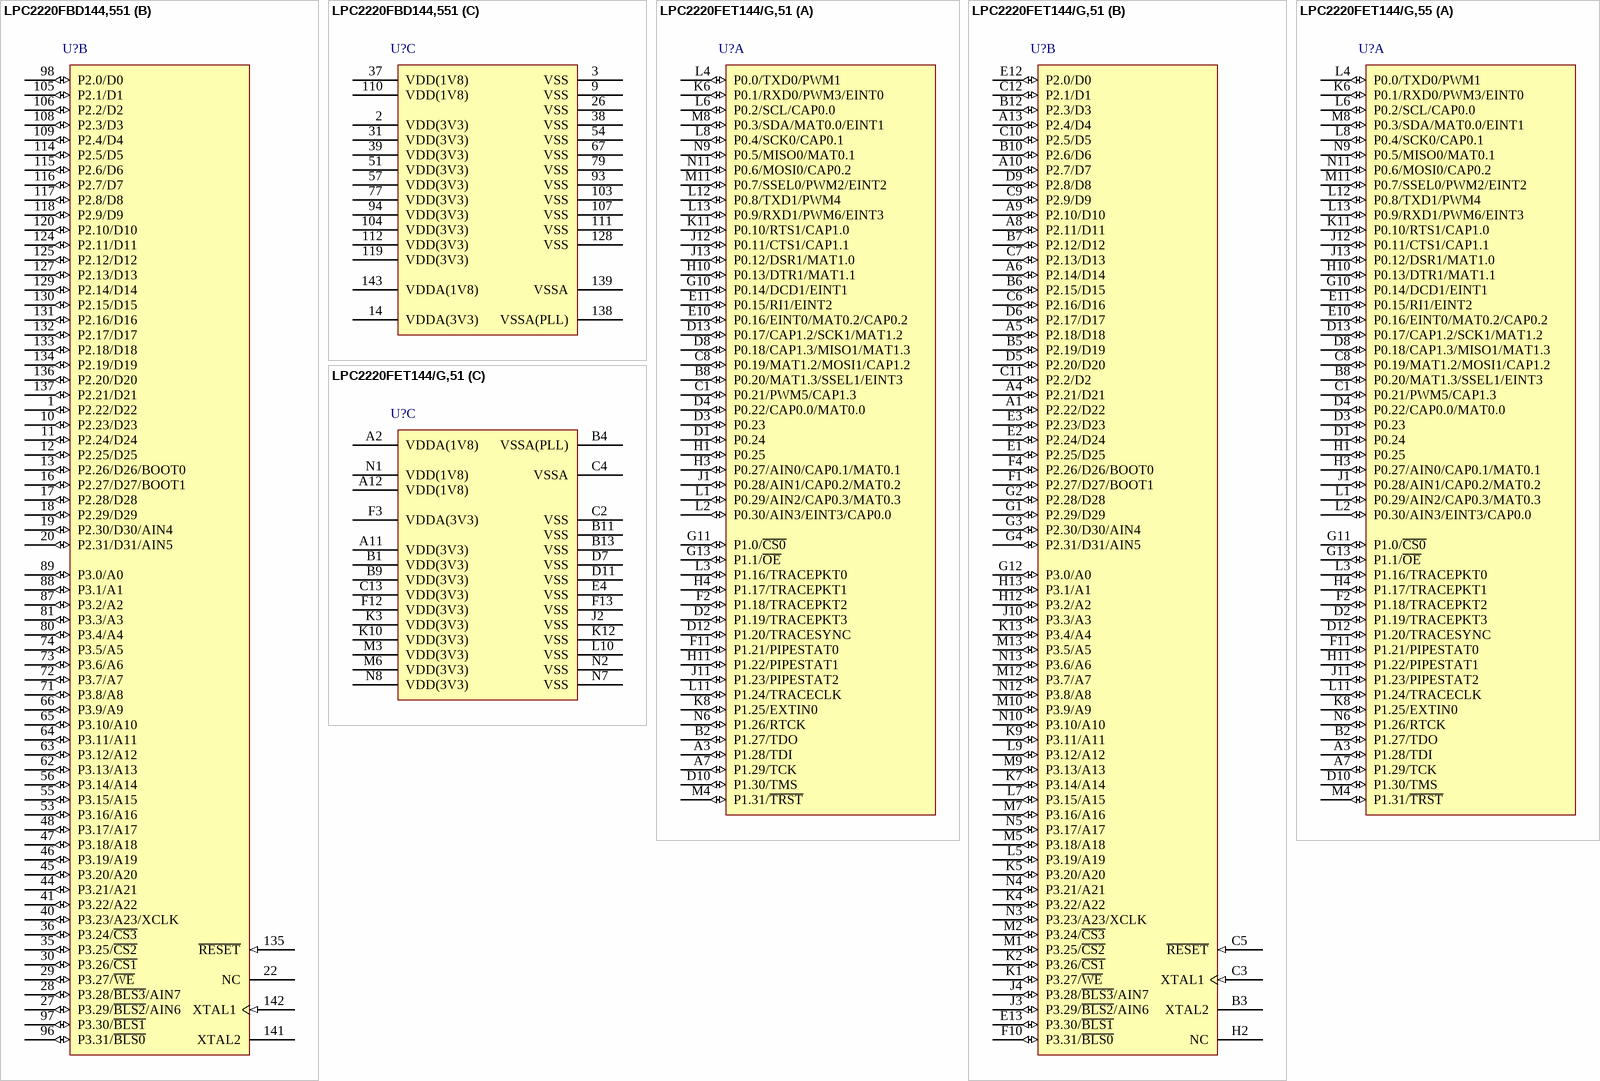
[diagram p14: symbols LPC2220FBD144,551 to LPC2220FET144/G,55]

## LPC2220FBD144,551
designator U?
16/32-bit ARM7 Microcontroller, 76 I/O, 64 kB SRAM, -40 to 85 degC, 144-Pin LQFP, Tray; Manufacturer: NXP Semiconductors; PartNumber: LPC2220FBD144,551; # of timers: 2; ADC (bits): 10; ADC Channels: 8; fmax [max] (MHz): 75; I/O Pins: 76; I2C: 1; PLL: TRUE; PWM: 6; RAM (KB): 64; Timer (bits): 32; DatasheetVersion: Rev. 06; PackageVersion: Feb-03; PackageReference: SOT486-1; PackageDescription: 144-Pin Plastic Low Profile Quad Flat Package, Body 20 x 20 mm, Pitch 0.5 mm; Supplier 1: Digi-Key; Supplier Part Number 1: 568-1896-ND; Supplier 2: Farnell; Supplier Part Number 2: 1169496; Supplier 3: Newark; Supplier Part Number 3: 70R5638; Supplier 4: Mouser; Supplier Part Number 4: 771-LPC2220FBD144-S; Core: ARM7; Packing: Tray; SPI: 2; SSP: 1; UART: 2; Mounting Technology: Surface Mount; Code_JEDEC: MS-026; ComponentLink1Description: Manufacturer URL; ComponentLink1URL: http://www.nxp.com/; ComponentLink2Description: Datasheet; ComponentLink2URL: http://www.nxp.com/documents/data_sheet/LPC2210_2220.pdf; ComponentLink3Description: Package Specification; ComponentLink3URL: http://www.nxp.com/documents/outline_drawing/sot486-1_po.pdf
footprint NXP-SOT486-1_V (QFP, 144-Leads, Body 20x20mm, Pitch 0.5mm)
part A pins: 4 P0.21/PWM5/CAP1.3 (io), 5 P0.22/CAP0.0/MAT0.0 (io), 6 P0.23 (io) "General purpose bidirectional digital port only.", 7 P1.19/TRACEPKT3 (io), 8 P0.24 (io) "General purpose bidirectional digital port only.", 15 P1.18/TRACEPKT2 (io), 21 P0.25 (io) "General purpose bidirectional digital port only.", 23 P0.27/AIN0/CAP0.1/MAT0.1 (io), 24 P1.17/TRACEPKT1 (io), 25 P0.28/AIN1/CAP0.2/MAT0.2 (io), 32 P0.29/AIN2/CAP0.3/MAT0.3 (io), 33 P0.30/AIN3/EINT3/CAP0.0 (io), 34 P1.16/TRACEPKT0 (io), 42 P0.0/TXD0/PWM1 (io), 43 P1.31/~{TRST} (io), 49 P0.1/RXD0/PWM3/EINT0 (io), 50 P0.2/SCL/CAP0.0 (io), 52 P1.26/RTCK (io), 58 P0.3/SDA/MAT0.0/EINT1 (io), 59 P0.4/SCK0/CAP0.1 (io), 60 P1.25/EXTIN0 (io), 61 P0.5/MISO0/MAT0.1 (io), 68 P0.6/MOSI0/CAP0.2 (io), 69 P0.7/SSEL0/PWM2/EINT2 (io), 70 P1.24/TRACECLK (io), 75 P0.8/TXD1/PWM4 (io), 76 P0.9/RXD1/PWM6/EINT3 (io), 78 P0.10/RTS1/CAP1.0 (io), 82 P1.23/PIPESTAT2 (io), 83 P0.11/CTS1/CAP1.1 (io), 84 P0.12/DSR1/MAT1.0 (io), 85 P0.13/DTR1/MAT1.1 (io), 86 P1.22/PIPESTAT1 (io), 90 P1.1/~{OE} (io), 91 P1.0/~{CS0} (io), 92 P0.14/DCD1/EINT1 (io), 95 P1.21/PIPESTAT0 (io), 99 P0.15/RI1/EINT2 (io), 100 P0.16/EINT0/MAT0.2/CAP0.2 (io), 101 P0.17/CAP1.2/SCK1/MAT1.2 (io), 102 P1.20/TRACESYNC (io), 113 P1.30/TMS (io), 121 P0.18/CAP1.3/MISO1/MAT1.3 (io), 122 P0.19/MAT1.2/MOSI1/CAP1.2 (io), 123 P0.20/MAT1.3/SSEL1/EINT3 (io), 126 P1.29/TCK (io), 140 P1.28/TDI (io), 144 P1.27/TDO (io)
part B pins: 1 P2.22/D22 (io), 10 P2.23/D23 (io), 11 P2.24/D24 (io), 12 P2.25/D25 (io), 13 P2.26/D26/BOOT0 (io), 16 P2.27/D27/BOOT1 (io), 17 P2.28/D28 (io), 18 P2.29/D29 (io), 19 P2.30/D30/AIN4 (io), 20 P2.31/D31/AIN5 (io), 22 NC "Not connected. This pin MUST NOT be pulled LOW or the device might not operate properly.", 27 P3.29/~{BLS2}/AIN6 (io), 28 P3.28/~{BLS3}/AIN7 (io), 29 P3.27/~{WE} (io), 30 P3.26/~{CS1} (io), 35 P3.25/~{CS2} (io), 36 P3.24/~{CS3} (io), 40 P3.23/A23/XCLK (io), 41 P3.22/A22 (io), 44 P3.21/A21 (io), 45 P3.20/A20 (io), 46 P3.19/A19 (io), 47 P3.18/A18 (io), 48 P3.17/A17 (io), 53 P3.16/A16 (io), 55 P3.15/A15 (io), 56 P3.14/A14 (io), 62 P3.13/A13 (io), 63 P3.12/A12 (io), 64 P3.11/A11 (io), 65 P3.10/A10 (io), 66 P3.9/A9 (io), 71 P3.8/A8 (io), 72 P3.7/A7 (io), 73 P3.6/A6 (io), 74 P3.5/A5 (io), 80 P3.4/A4 (io), 81 P3.3/A3 (io), 87 P3.2/A2 (io), 88 P3.1/A1 (io), 89 P3.0/A0 (io), 96 P3.31/~{BLS0} (io), 97 P3.30/~{BLS1} (io), 98 P2.0/D0 (io), 105 P2.1/D1 (io), 106 P2.2/D2 (io), 108 P2.3/D3 (io), 109 P2.4/D4 (io), 114 P2.5/D5 (io), 115 P2.6/D6 (io), 116 P2.7/D7 (io), 117 P2.8/D8 (io), 118 P2.9/D9 (io), 120 P2.10/D10 (io), 124 P2.11/D11 (io), 125 P2.12/D12 (io), 127 P2.13/D13 (io), 129 P2.14/D14 (io), 130 P2.15/D15 (io), 131 P2.16/D16 (io), 132 P2.17/D17 (io), 133 P2.18/D18 (io), 134 P2.19/D19 (io), 135 ~{RESET} (in) "External reset input: A LOW on this pin resets the device,causing I/O ports and peripherals to take on their default states, and processor execution to begin at address 0. TTL with hysteresis, 5 V tolerant.", 136 P2.20/D20 (io), 137 P2.21/D21 (io), 141 XTAL2 "Output from the oscillator amplifier.", 142 XTAL1 (in) "Input to the oscillator circuit and internal clock generator circuits."
part C pins: 2 VDD(3V3) (power) "3.3 V pad power supply: This is the power supply voltage for the I/O ports.", 3 VSS (power) "Ground: 0 V reference.", 9 VSS (power) "Ground: 0 V reference.", 14 VDDA(3V3) (power) "Analog 3.3 V pad power supply: This should be nominally the same voltage as VDD(3V3) but should be isolated to minimize noise and error.", 26 VSS (power) "Ground: 0 V reference.", 31 VDD(3V3) (power) "3.3 V pad power supply: This is the power supply voltage for the I/O ports.", 37 VDD(1V8) (power) "1.8 V core power supply: This is the power supply voltage for internal circuitry.", 38 VSS (power) "Ground: 0 V reference.", 39 VDD(3V3) (power) "3.3 V pad power supply: This is the power supply voltage for the I/O ports.", 51 VDD(3V3) (power) "3.3 V pad power supply: This is the power supply voltage for the I/O ports.", 54 VSS (power) "Ground: 0 V reference.", 57 VDD(3V3) (power) "3.3 V pad power supply: This is the power supply voltage for the I/O ports.", 67 VSS (power) "Ground: 0 V reference.", 77 VDD(3V3) (power) "3.3 V pad power supply: This is the power supply voltage for the I/O ports.", 79 VSS (power) "Ground: 0 V reference.", 93 VSS (power) "Ground: 0 V reference.", 94 VDD(3V3) (power) "3.3 V pad power supply: This is the power supply voltage for the I/O ports.", 103 VSS (power) "Ground: 0 V reference.", 104 VDD(3V3) (power) "3.3 V pad power supply: This is the power supply voltage for the I/O ports.", 107 VSS (power) "Ground: 0 V reference.", 110 VDD(1V8) (power) "1.8 V core power supply: This is the power supply voltage for internal circuitry.", 111 VSS (power) "Ground: 0 V reference.", 112 VDD(3V3) (power) "3.3 V pad power supply: This is the power supply voltage for the I/O ports.", 119 VDD(3V3) (power) "3.3 V pad power supply: This is the power supply voltage for the I/O ports.", 128 VSS (power) "Ground: 0 V reference.", 138 VSSA(PLL) (power) "PLL analog ground: 0 V reference. This should nominally be the same voltage as VSS, but should be isolated to minimize noise and error.", 139 VSSA (power) "Analog ground: 0 V reference. This should nominally be the same voltage as VSS, but should be isolated to minimize noise and error.", 143 VDDA(1V8) (power) "Analog 1.8 V core power supply: This is the power supply voltage for internal circuitry. This should be nominally the same voltage as VDD(1V8) but should be isolated to minimize noise and error."

## LPC2220FET144/G,51
designator U?
16/32-bit ARM7 Microcontroller, 76 I/O, 64 kB SRAM, -40 to 85 degC, 144-Ball TFBGA, Reel; Manufacturer: NXP Semiconductors; PartNumber: LPC2220FET144/G,51; # of timers: 2; ADC (bits): 10; ADC Channels: 8; fmax [max] (MHz): 75; I/O Pins: 76; I2C: 1; PLL: TRUE; PWM: 6; RAM (KB): 64; Timer (bits): 32; DatasheetVersion: Rev. 06; PackageVersion: Mar-08; PackageReference: SOT569-2; PackageDescription: 144-Ball Plastic Thin Fine-Pitch Ball Grid Array Package, Body 12 x 12 mm, Pitch 0.8 mm; Supplier 1: Digi-Key; Supplier Part Number 1: LPC2220FET144/G,51-ND; Supplier 2: Farnell; Supplier Part Number 2: 2356381; Supplier 3: Newark; Supplier Part Number 3: 01X1722; Supplier 4: Mouser; Supplier Part Number 4: 771-LPC2220FET144G51; Core: ARM7; Packing: Reel; SPI: 2; SSP: 1; UART: 2; Mounting Technology: Surface Mount; ComponentLink1Description: Manufacturer URL; ComponentLink1URL: http://www.nxp.com/; ComponentLink2Description: Datasheet; ComponentLink2URL: http://www.nxp.com/documents/data_sheet/LPC2210_2220.pdf; ComponentLink3Description: Package Specification; ComponentLink3URL: http://www.nxp.com/documents/outline_drawing/sot569-2_po.pdf
footprint NXP-SOT569-2_V (BGA, 144-Balls, Body 12x12mm, Pitch 0.8mm)
part A pins: A3 P1.28/TDI (io), A7 P1.29/TCK (io), B2 P1.27/TDO (io), B8 P0.20/MAT1.3/SSEL1/EINT3 (io), C1 P0.21/PWM5/CAP1.3 (io), C8 P0.19/MAT1.2/MOSI1/CAP1.2 (io), D1 P0.24 (io) "Port 0 is a 32-bit bidirectional I/O port with individual direction controls for each bit. The operation of port 0 pins depends upon the pin function selected via the Pin Connect Block.", D2 P1.19/TRACEPKT3 (io), D3 P0.23 (io) "Port 0 is a 32-bit bidirectional I/O port with individual direction controls for each bit. The operation of port 0 pins depends upon the pin function selected via the Pin Connect Block.", D4 P0.22/CAP0.0/MAT0.0 (io), D8 P0.18/CAP1.3/MISO1/MAT1.3 (io), D10 P1.30/TMS (io), D12 P1.20/TRACESYNC (io), D13 P0.17/CAP1.2/SCK1/MAT1.2 (io), E10 P0.16/EINT0/MAT0.2/CAP0.2 (io), E11 P0.15/RI1/EINT2 (io), F2 P1.18/TRACEPKT2 (io), F11 P1.21/PIPESTAT0 (io), G10 P0.14/DCD1/EINT1 (io), G11 P1.0/~{CS0} (io), G13 P1.1/~{OE} (io), H1 P0.25 (io) "Port 0 is a 32-bit bidirectional I/O port with individual direction controls for each bit. The operation of port 0 pins depends upon the pin function selected via the Pin Connect Block.", H3 P0.27/AIN0/CAP0.1/MAT0.1 (io), H4 P1.17/TRACEPKT1 (io), H10 P0.13/DTR1/MAT1.1 (io), H11 P1.22/PIPESTAT1 (io), J1 P0.28/AIN1/CAP0.2/MAT0.2 (io), J11 P1.23/PIPESTAT2 (io), J12 P0.11/CTS1/CAP1.1 (io), J13 P0.12/DSR1/MAT1.0 (io), K6 P0.1/RXD0/PWM3/EINT0 (io), K8 P1.25/EXTIN0 (io), K11 P0.10/RTS1/CAP1.0 (io), L1 P0.29/AIN2/CAP0.3/MAT0.3 (io), L2 P0.30/AIN3/EINT3/CAP0.0 (io), L3 P1.16/TRACEPKT0 (io), L4 P0.0/TXD0/PWM1 (io), L6 P0.2/SCL/CAP0.0 (io), L8 P0.4/SCK0/CAP0.1 (io), L11 P1.24/TRACECLK (io), L12 P0.8/TXD1/PWM4 (io), L13 P0.9/RXD1/PWM6/EINT3 (io), M4 P1.31/~{TRST} (io), M8 P0.3/SDA/MAT0.0/EINT1 (io), M11 P0.7/SSEL0/PWM2/EINT2 (io), N6 P1.26/RTCK (io), N9 P0.5/MISO0/MAT0.1 (io), N11 P0.6/MOSI0/CAP0.2 (io)
part B pins: A1 P2.22/D22 (io), A4 P2.21/D21 (io), A5 P2.18/D18 (io), A6 P2.14/D14 (io), A8 P2.11/D11 (io), A9 P2.10/D10 (io), A10 P2.7/D7 (io), A13 P2.4/D4 (io), B3 XTAL2 "Output from the oscillator amplifier", B5 P2.19/D19 (io), B6 P2.15/D15 (io), B7 P2.12/D12 (io), B10 P2.6/D6 (io), B12 P2.3/D3 (io), C3 XTAL1 (in) "Input to the oscillator circuit and internal clock generator circuits.", C5 ~{RESET} (in) "External reset input: A LOW on this pin resets the device, causing I/O ports and peripherals to take on their default states, and processor execution to begin at address 0. TTL with hysteresis, 5 V tolerant.", C6 P2.16/D16 (io), C7 P2.13/D13 (io), C9 P2.9/D9 (io), C10 P2.5/D5 (io), C11 P2.2/D2 (io), C12 P2.1/D1 (io), D5 P2.20/D20 (io), D6 P2.17/D17 (io), D9 P2.8/D8 (io), E1 P2.25/D25 (io), E2 P2.24/D24 (io), E3 P2.23/D23 (io), E12 P2.0/D0 (io), E13 P3.30/~{BLS1} (io), F1 P2.27/D27/BOOT1 (io), F4 P2.26/D26/BOOT0 (io), F10 P3.31/~{BLS0} (io), G1 P2.29/D29 (io), G2 P2.28/D28 (io), G3 P2.30/D30/AIN4 (io), G4 P2.31/D31/AIN5 (io), G12 P3.0/A0 (io), H2 NC "Not connected. This pin MUST NOT be pulled LOW or the device might not operate properly.", H12 P3.2/A2 (io), H13 P3.1/A1 (io), J3 P3.29/~{BLS2}/AIN6 (io), J4 P3.28/~{BLS3}/AIN7 (io), J10 P3.3/A3 (io), K1 P3.27/~{WE} (io), K2 P3.26/~{CS1} (io), K4 P3.22/A22 (io), K5 P3.20/A20 (io), K7 P3.14/A14 (io), K9 P3.11/A11 (io), K13 P3.4/A4 (io), L5 P3.19/A19 (io), L7 P3.15/A15 (io), L9 P3.12/A12 (io), M1 P3.25/~{CS2} (io), M2 P3.24/~{CS3} (io), M5 P3.18/A18 (io), M7 P3.16/A16 (io), M9 P3.13/A13 (io), M10 P3.9/A9 (io), M12 P3.7/A7 (io), M13 P3.5/A5 (io), N3 P3.23/A23/XCLK (io), N4 P3.21/A21 (io), N5 P3.17/A17 (io), N10 P3.10/A10 (io), N12 P3.8/A8 (io), N13 P3.6/A6 (io)
part C pins: A2 VDDA(1V8) (power) "Analog 1.8 V core power supply: This is the power supply voltage for internal circuitry. This should be nominally the same voltage as VDD(1V8) but should be isolated to minimize noise and error.", A11 VDD(3V3) (power) "3.3 V pad power supply: This is the power supply voltage for the I/O ports.", A12 VDD(1V8) (power) "1.8 V core power supply: This is the power supply voltage for internal circuitry.", B1 VDD(3V3) (power) "3.3 V pad power supply: This is the power supply voltage for the I/O ports.", B4 VSSA(PLL) (power) "PLL analog ground: 0 V reference. This should nominally be the same voltage as VSS, but should be isolated to minimize noise and error.", B9 VDD(3V3) (power) "3.3 V pad power supply: This is the power supply voltage for the I/O ports.", B11 VSS (power) "Ground: 0 V reference.", B13 VSS (power) "Ground: 0 V reference.", C2 VSS (power) "Ground: 0 V reference.", C4 VSSA (power) "Analog ground: 0 V reference. This should nominally be the same voltage as VSS, but should be isolated to minimize noise and error.", C13 VDD(3V3) (power) "3.3 V pad power supply: This is the power supply voltage for the I/O ports.", D7 VSS (power) "Ground: 0 V reference.", D11 VSS (power) "Ground: 0 V reference.", E4 VSS (power) "Ground: 0 V reference.", F3 VDDA(3V3) (power) "Analog 3.3 V pad power supply: This should be nominally the same voltage as VDD(3V3) but should be isolated to minimize noise and error.", F12 VDD(3V3) (power) "Analog 3.3 V pad power supply: This should be nominally the same voltage as VDD(3V3) but should be isolated to minimize noise and error.", F13 VSS (power) "Ground: 0 V reference.", J2 VSS (power) "Ground: 0 V reference.", K3 VDD(3V3) (power) "Analog 3.3 V pad power supply: This should be nominally the same voltage as VDD(3V3) but should be isolated to minimize noise and error.", K10 VDD(3V3) (power) "Analog 3.3 V pad power supply: This should be nominally the same voltage as VDD(3V3) but should be isolated to minimize noise and error.", K12 VSS (power) "Ground: 0 V reference.", L10 VSS (power) "Ground: 0 V reference.", M3 VDD(3V3) (power) "Analog 3.3 V pad power supply: This should be nominally the same voltage as VDD(3V3) but should be isolated to minimize noise and error.", M6 VDD(3V3) (power) "Analog 3.3 V pad power supply: This should be nominally the same voltage as VDD(3V3) but should be isolated to minimize noise and error.", N1 VDD(1V8) (power) "1.8 V core power supply: This is the power supply voltage for internal circuitry.", N2 VSS (power) "Ground: 0 V reference.", N7 VSS (power) "Ground: 0 V reference.", N8 VDD(3V3) (power) "Analog 3.3 V pad power supply: This should be nominally the same voltage as VDD(3V3) but should be isolated to minimize noise and error."

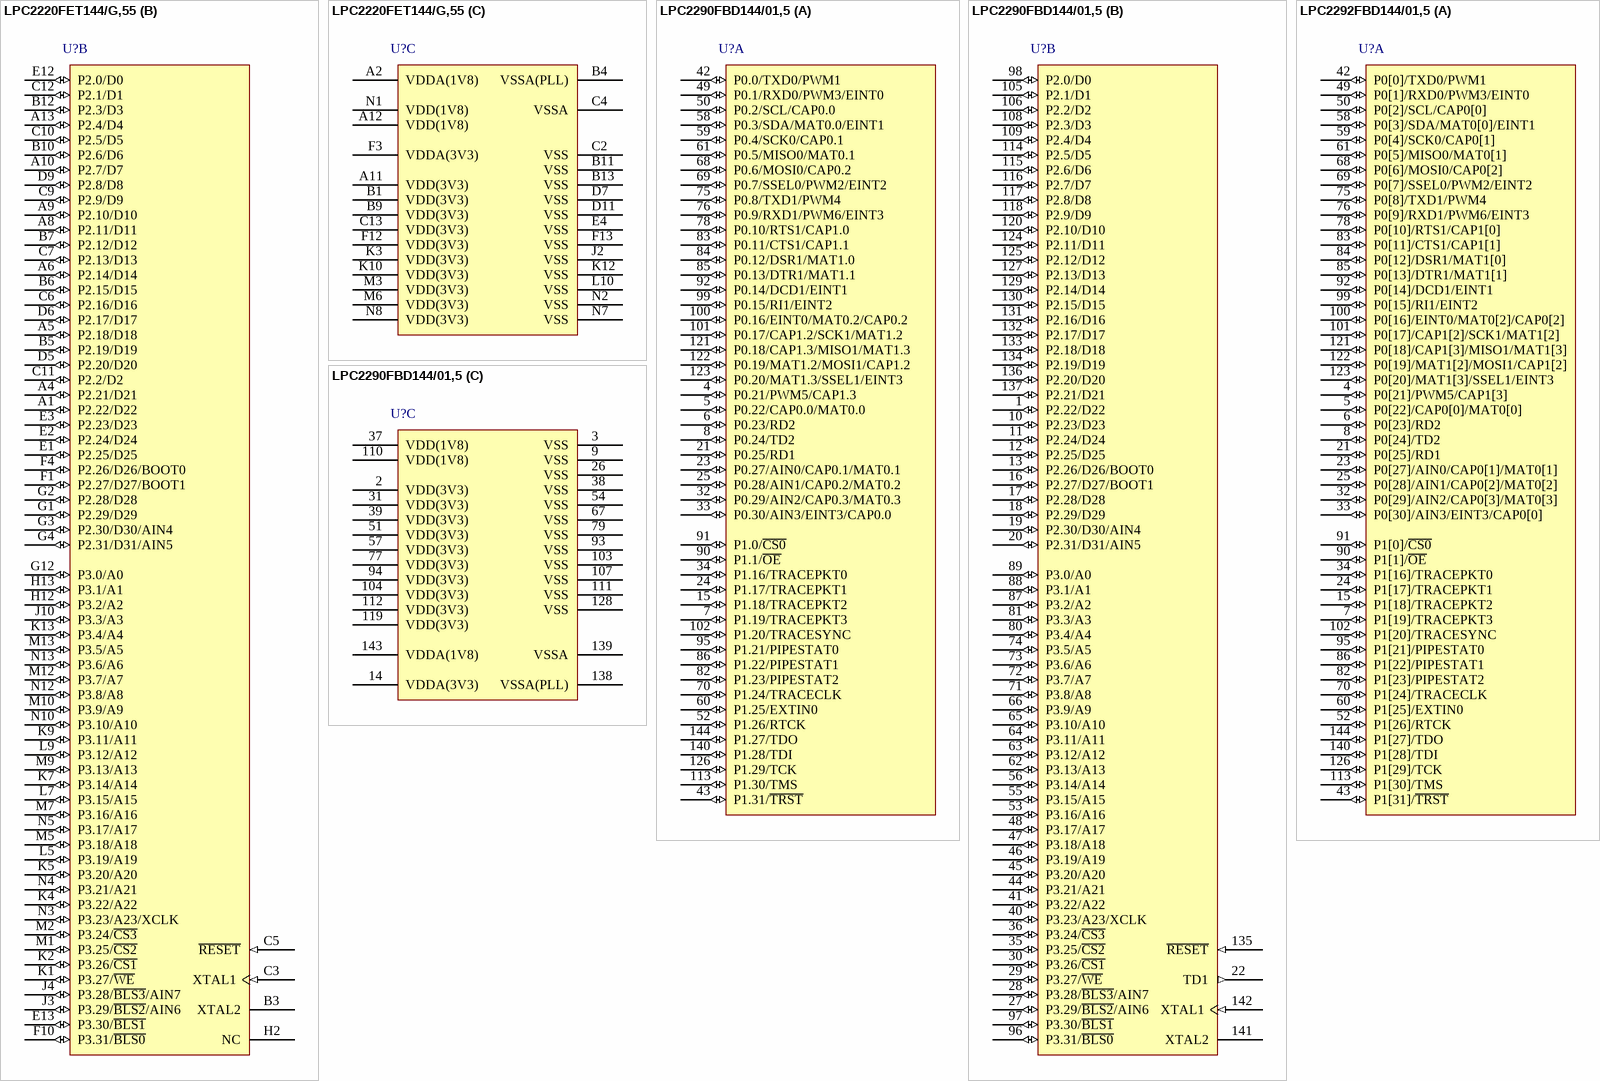
[diagram p15: symbols LPC2220FET144/G,55 to LPC2292FBD144/01,5]